# Altium schematic symbol library General Library.SchLib: 43 symbols (part 1 of 2)
Pins are listed as number, name and electrical type; pins without a type are passive.

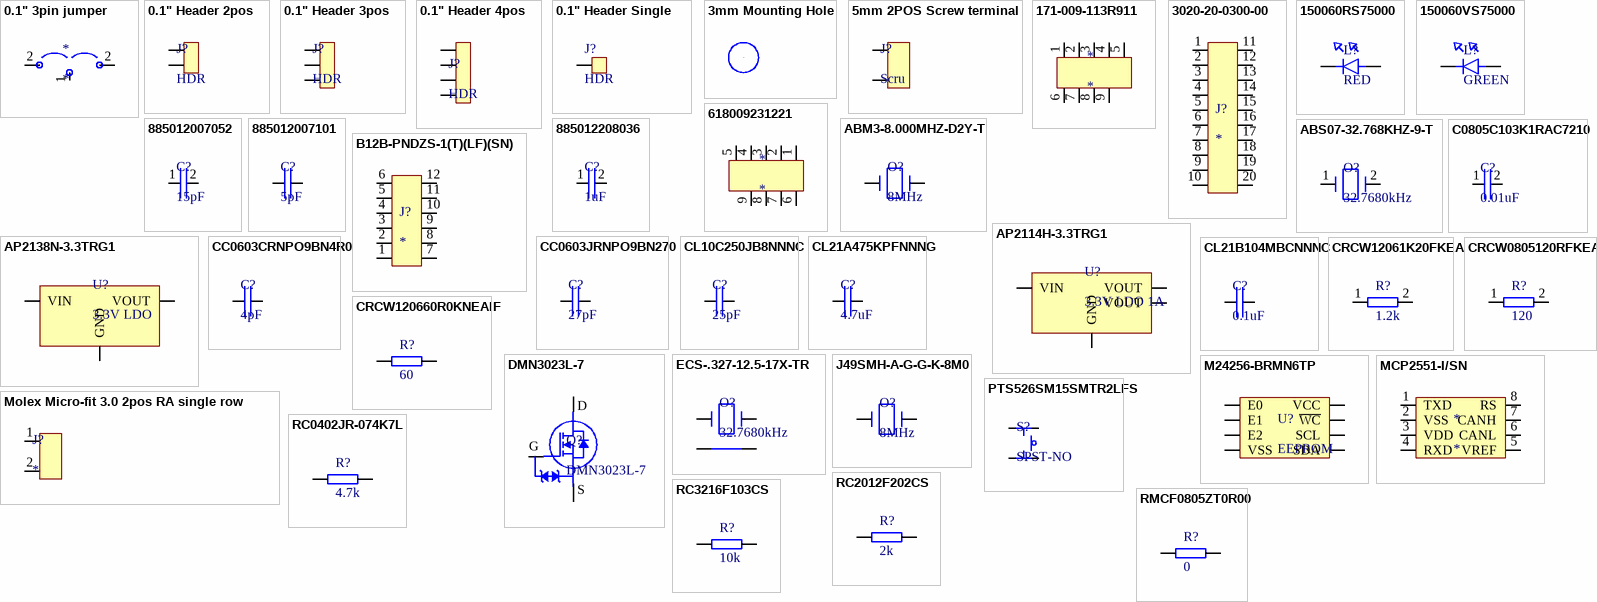
[diagram p0: symbols 0.1" 3pin jumper to RMCF0805ZT0R00]

## 0.1" 3pin jumper
designator *
pins: 1, 2, 2

## 0.1" Header 2pos
designator J?, comment HDR
footprint 0.1" Header 2pos
pins: 1, 2

## 0.1" Header 3pos
designator J?, comment HDR
footprint 0.1" Header 3pos
pins: 1, 2, 3

## 0.1" Header 4pos
designator J?, comment HDR
footprint 0.1" Header 4pos
pins: 1, 2, 3, 4

## 0.1" Header Single
designator J?, comment HDR
footprint 0.1" Header 1pos
pins: 1

## 3mm Mounting Hole
designator M?  (value not drawn)
footprint 3mm Mounting Hole
pins: 1

## 5mm 2POS Screw terminal
designator J?, comment Scru
footprint 5mm 2POS Screw terminal
pins: 1, 2

## 171-009-113R911
designator *
D Sub (male), PLUG, SOLDER, STRAIGHT, 9WAY; Product Range:NORCOMP - 171 Series; No. of Contacts:9; D Sub Shell Size:DE; Connector Body Material:Steel; Gender:Plug; Contact Termination Type:Solder; SVHC:No SVHC (16-Jun-2014); Contact ;RoHS Compliant: Yes
footprint DB9 (Male)
pins: 1, 2, 3, 4, 5, 6, 7, 8, 9

## 3020-20-0300-00
designator J?
CONN HEADER SMD 20POS 2.54MM
footprint 3020-20-0300-00
pins: 1, 2, 3, 4, 5, 6, 7, 8, 9, 10, 11, 12, 13, 14, 15, 16, 17, 18, 19, 20

## 150060RS75000
designator L?, comment RED
WURTH ELEKTRONIK - 150060RS75000 - LED, Red, 625 nm, 2 V, 30 mA, 250 mcd RoHS Compliant: Yes; Manufacturer: Wurth Electronics; Viewing Angle: 140°; Lens Style: Clear,Rectangular; Luminous Intensity: 250mcd; Forward Current: 30mA; Forward Voltage: 2V; Wavelength: 625nm; Test Current: 20mA; Supplier 1: Digi-Key; Supplier Part Number 1: 732-4978-1-ND; Manufacturer Part Number: 150060RS75000; RoHS: Yes; Category: LEDs; Stock 1: 19381; Mount: Surface Mount; Case/Package: 0603; Case Code (Imperial): 0603; Color: Red; Case Code (Metric): 1608; Min Operating Temperature: -40°C; Max Operating Temperature: 85°C; Package Quantity: 1; Packaging: Cut Tape; Dominant Wavelength: 625nm; Length: 1.6mm; Height: 0.7mm; Width: 0.8mm; REACH SVHC: Unknown; ComponentLink1URL: https://datasheet.ciiva.com/29563/150060rs75000-29563040.pdf?src-supplier=Digi-Key; ComponentLink1Description: https://datasheet.ciiva.com/29563/150060rs75000-29563040.pdf?src-supplier=Digi-Key; ComponentLink2URL: https://datasheet.ciiva.com/29279/759428-da-01-en-chipled-0603-w-kl-rot-150060rs75000-29279196.pdf?src-supplier=Conrad; ComponentLink2Description: https://datasheet.ciiva.com/29279/759428-da-01-en-chipled-0603-w-kl-rot-150060rs75000-29279196.pdf?src-supplier=Conrad
footprint 0603 LED
pins: 1, 2

## 150060VS75000
designator L?, comment GREEN
WURTH ELEKTRONIK - 150060VS75000 - LED, Grün, Oberflächenmontage, 603, 30 mA, 2 V, 570 nm; Manufacturer: Wurth Electronics; Luminous Intensity: 40mcd; Viewing Angle: 140°; Forward Voltage: 2V; Wavelength: 570nm; Lens Style: Clear,Rectangular; Forward Current: 30mA; Test Current: 20mA; Supplier 1: Digi-Key; Supplier Part Number 1: 732-4980-1-ND; Manufacturer Part Number: 150060VS75000; RoHS: Yes; Category: LEDs; Stock 1: 29022; Mount: Surface Mount; Case/Package: 0603; Number of Pins: 2; Case Code (Metric): 1608; Case Code (Imperial): 0603; Color: Green; Min Operating Temperature: -40°C; Max Operating Temperature: 85°C; Package Quantity: 1; Packaging: Tape and Reel; Dominant Wavelength: 570nm; Length: 1.6mm; Height: 0.7mm; Width: 0.8mm; REACH SVHC: Unknown; ComponentLink1URL: https://datasheet.ciiva.com/29562/150060vs75000-29562919.pdf?src-supplier=Digi-Key; ComponentLink1Description: https://datasheet.ciiva.com/29562/150060vs75000-29562919.pdf?src-supplier=Digi-Key
footprint 0603 LED
pins: 1, 2

## 618009231221
designator *
WURTH ELEKTRONIK - 618009231221 - WR-DSUB FEMALE ANGLED PCB CONNEC
pins: 1, 2, 3, 4, 5, 6, 7, 8, 9

## 885012007052
designator C?, comment 15pF
CAP CER 15PF 50V C0G/NP0 0805; Manufacturer: Wurth Electronics; Manufacturer Part Number: 885012007052; Tolerance: 5%; Supplier 1: Digi-Key; Supplier Part Number 1: 732-7847-1-ND; RoHS: Yes; Category: Ceramic Capacitors; Stock 1: 5633; Mount: Surface Mount; Case/Package: 0805; Case Code (Metric): 2012; Case Code (Imperial): 0805; Min Operating Temperature: -55°C; Max Operating Temperature: 125°C; Packaging: Cut Tape; Capacitance: 15pF; Voltage Rating: 50V; Length: 0.079inch; Width: 0.049inch; Thickness: 0.028inch; ComponentLink1URL: http://www.farnell.com/datasheets/2031702.pdf?src-supplier=Farnell; ComponentLink1Description: http://www.farnell.com/datasheets/2031702.pdf?src-supplier=Farnell; ComponentLink2URL: https://katalog.we-online.de/pbs/datasheet/885012007052.pdf?src-supplier=Digi-Key; ComponentLink2Description: https://katalog.we-online.de/pbs/datasheet/885012007052.pdf?src-supplier=Digi-Key; ComponentLink3URL: http://katalog.we-online.de/pbs/datasheet/885012007052.pdf?src-supplier=Digi-Key; ComponentLink3Description: http://katalog.we-online.de/pbs/datasheet/885012007052.pdf?src-supplier=Digi-Key
footprint 0805
pins: 1, 2

## 885012007101
designator C?, comment 5pF
CAP CER 5PF 100V C0G/NP0 0805; Manufacturer: Wurth Electronics; Manufacturer Part Number: 885012007101; Supplier 1: Digi-Key; Supplier Part Number 1: 732-12221-1-ND; RoHS: No; Stock 1: 1082; Mount: Surface Mount; Case/Package: 0805; Case Code (Imperial): 0805; Case Code (Metric): 2012; Min Operating Temperature: -55°C; Max Operating Temperature: 125°C; Packaging: Cut Tape; Capacitance: 5pF; Voltage Rating: 100V; ComponentLink1URL: https://katalog.we-online.de/pbs/datasheet/885012007101.pdf?src-supplier=Digi-Key; ComponentLink1Description: https://katalog.we-online.de/pbs/datasheet/885012007101.pdf?src-supplier=Digi-Key
footprint 0805
pins: 1, 2

## 885012208036
designator C?, comment 1uF
CAP CER 1UF 16V X7R 1206; Manufacturer: Wurth Electronics; Manufacturer Part Number: 885012208036; Tolerance: 10%; Supplier 1: Digi-Key; Supplier Part Number 1: 732-7692-1-ND; RoHS: Yes; Category: Ceramic Capacitors; Stock 1: 2993; Mount: Surface Mount; Case/Package: 1206; Case Code (Imperial): 1206; Case Code (Metric): 3216; Min Operating Temperature: -55°C; Max Operating Temperature: 125°C; Packaging: Tape and Reel; Capacitance: 1uF; Voltage Rating: 16V; Length: 0.126inch; Width: 0.063inch; Thickness: 0.051inch; ComponentLink1URL: http://katalog.we-online.de/pbs/datasheet/885012208036.pdf?src-supplier=Digi-Key; ComponentLink1Description: http://katalog.we-online.de/pbs/datasheet/885012208036.pdf?src-supplier=Digi-Key; ComponentLink2URL: https://katalog.we-online.de/pbs/datasheet/885012208036.pdf?src-supplier=Digi-Key; ComponentLink2Description: https://katalog.we-online.de/pbs/datasheet/885012208036.pdf?src-supplier=Digi-Key
footprint 1206
pins: 1, 2

## ABM3-8.000MHZ-D2Y-T
designator O?, comment 8MHz
ABRACON - ABM3-8.000MHZ-D2Y-T - CRYSTAL, 8MHZ, 18PF, SMD
footprint ABM3-8.000MHZ-D2Y-T (8MHz ±20ppm Crystal 18pF 140 Ohms 2-SMD, No Lead)
pins: 1, 2

## ABS07-32.768KHZ-9-T
designator O?, comment 32.7680kHz
CRYSTAL 32.7680KHZ 9PF SMD
footprint ABS07-32.768KHZ-9-T (32.768kHz ±20ppm Crystal 9pF 70 kOhms 2-SMD, No Lead)
pins: 1, 2

## AP2114H-3.3TRG1
designator U?, comment 3.3V LDO 1A
AP2114 Series 3.3 V Fixed Output 1 A LDO Regulator with Enable - SOT-223; Manufacturer: Diodes; Manufacturer Part Number: AP2114H-3.3TRG1; Number of Regulators: 1; Polarity: Positive; Quiescent Current: 65uA; Accuracy: 1.5%; Min Input Voltage: 2.5V; Max Input Voltage: 6V; Dropout Voltage: 450mV; Power Supply Rejection Ratio (PSRR): 65dB; Supplier 1: Digi-Key; Supplier Part Number 1: AP2114H-3.3TRG1DICT-ND; RoHS: Yes; Category: Voltage Regulators - Linear; Stock 1: 24450; Mount: Surface Mount; Case/Package: SOT-223; Number of Pins: 3; Weight: 0.000282oz; Min Operating Temperature: -40°C; Max Operating Temperature: 85°C; Max Output Current: 1A; Output Current: 1A; Packaging: Tape and Reel; Number of Outputs: 1; Output Voltage: 3.3V; Package Quantity: 4000; Output Type: Fixed; Length: 6.7mm; Height: 1.7mm; Width: 3.7mm; Lead Free: Lead Free; ComponentLink1URL: https://datasheet.ciiva.com/29569/ap2114-29569881.pdf?src-supplier=Digi-Key; ComponentLink1Description: https://datasheet.ciiva.com/29569/ap2114-29569881.pdf?src-supplier=Digi-Key; ComponentLink2URL: https://datasheet.ciiva.com/29569/ap2114-29569882.pdf?src-supplier=Digi-Key; ComponentLink2Description: https://datasheet.ciiva.com/29569/ap2114-29569882.pdf?src-supplier=Digi-Key; ComponentLink3URL: https://datasheet.ciiva.com/29569/ap2114-29569883.pdf?src-supplier=Digi-Key; ComponentLink3Description: https://datasheet.ciiva.com/29569/ap2114-29569883.pdf?src-supplier=Digi-Key
footprint SOT-223
pins: 1 GND, 2 VOUT, 3 VIN, 4 VOUT

## AP2138N-3.3TRG1
designator U?, comment 3.3V LDO
IC REG LINEAR 3.3V 250MA SOT23-3; Manufacturer: Diodes; Manufacturer Part Number: AP2138N-3.3TRG1; Number of Regulators: 1; Quiescent Current: 1uA; Accuracy: 2%; Polarity: Positive; Output Type: Fixed; Min Input Voltage: 2.5V; Max Input Voltage: 6.6V; Dropout Voltage: 400mV; Supplier 1: Digi-Key; Supplier Part Number 1: AP2138N-3.3TRG1DICT-ND; RoHS: Yes; Category: Voltage Regulators - Linear; Stock 1: 148471; Mount: Surface Mount; Case/Package: SOT-23-3; Number of Pins: 3; Weight: 0.000282oz; Min Operating Temperature: -40°C; Max Operating Temperature: 85°C; Output Current: 250mA; Max Output Current: 250mA; Packaging: Tape and Reel; Number of Outputs: 1; Output Voltage: 3.3V; Package Quantity: 3000; Length: 3.02mm; Height: 1.3mm; Width: 1.7mm; Lead Free: Lead Free; ComponentLink1URL: https://datasheet.ciiva.com/29568/ap2138-9-29568816.pdf?src-supplier=Digi-Key; ComponentLink1Description: https://datasheet.ciiva.com/29568/ap2138-9-29568816.pdf?src-supplier=Digi-Key; ComponentLink2URL: https://datasheet.ciiva.com/30016/ap2138-9-30016777.pdf?src-supplier=Avnet; ComponentLink2Description: https://datasheet.ciiva.com/30016/ap2138-9-30016777.pdf?src-supplier=Avnet; ComponentLink3URL: https://datasheet.ciiva.com/29569/ap2138-9-29569023.pdf?src-supplier=Digi-Key; ComponentLink3Description: https://datasheet.ciiva.com/29569/ap2138-9-29569023.pdf?src-supplier=Digi-Key; ComponentLink4URL: https://datasheet.ciiva.com/29569/ap2138-9-29569022.pdf?src-supplier=Digi-Key; ComponentLink4Description: https://datasheet.ciiva.com/29569/ap2138-9-29569022.pdf?src-supplier=Digi-Key
footprint SOT-23-3
pins: 1 GND, 2 VOUT, 3 VIN

## B12B-PNDZS-1(T)(LF)(SN)
designator J?
CONN HEADER VERT 12POS 2MM; Manufacturer: JST; Manufacturer Part Number: B12B-PNDZS-1(T)(LF)(SN); Number of Positions: 12; Connector Type: Male Pin; Pitch: 0.079inch; Row Spacing: 0.197inch; Supplier 1: Digi-Key; Supplier Part Number 1: 455-2324-ND; RoHS: Yes; Category: Connectors; Stock 1: 2917; Mount: Through Hole; Color: Beige; Contact Plating: Tin; Termination: Solder; Number of Rows: 2; Fastening Type: Ramp; Packaging: Tray; Lead Free: Lead Free; ComponentLink1URL: https://datasheet.ciiva.com/726/epnd-726783.pdf?src-supplier=Digi-Key; ComponentLink1Description: https://datasheet.ciiva.com/726/epnd-726783.pdf?src-supplier=Digi-Key
footprint B12B-PNDZS-1(T)(LF)(SN)
pins: 1, 2, 3, 4, 5, 6, 7, 8, 9, 10, 11, 12

## C0805C103K1RAC7210
designator C?, comment 0.01uF
Cap Ceramic 0.01uF 100V X7R 10% SMD 0805 125C T/R; Manufacturer: KEMET; Manufacturer Part Number: C0805C103K1RAC7210; Capacitance: 10nF; Supplier 1: Digi-Key; Supplier Part Number 1: 399-17617-1-ND; RoHS: Yes; Category: Ceramic Capacitors; Stock 1: 43378; Mount: Surface Mount; Case/Package: 0805; Case Code (Imperial): 0805; Case Code (Metric): 2012; Dielectric Material: Ceramic; Min Operating Temperature: -55°C; Max Operating Temperature: 125°C; Dielectric: X7R; Tolerance: 10%; Termination: SMD/SMT; Packaging: Tape and Reel; Package Quantity: 10000; Voltage Rating: 100V; Voltage Rating (DC): 100V; Length: 2mm; Height: 0.78mm; Depth: 1.25mm; Radiation Hardening: No; ComponentLink1URL: http://www.mouser.com/ds/2/212/KEM_C1002_X7R_SMD-1102033.pdf?src-supplier=Mouser; ComponentLink1Description: http://www.mouser.com/ds/2/212/KEM_C1002_X7R_SMD-1102033.pdf?src-supplier=Mouser; ComponentLink2URL: https://www.verical.com/server-webapp/html/getDatasheet?partID=131027&src-supplier=Verical; ComponentLink2Description: https://www.verical.com/server-webapp/html/getDatasheet?partID=131027&src-supplier=Verical; ComponentLink3URL: http://components.arrow.com/part/dataview/0323_00324583?src-supplier=Arrow+Europe; ComponentLink3Description: http://components.arrow.com/part/dataview/0323_00324583?src-supplier=Arrow+Europe; ComponentLink4URL: http://www.farnell.com/datasheets/2747800.pdf?src-supplier=Farnell; ComponentLink4Description: http://www.farnell.com/datasheets/2747800.pdf?src-supplier=Farnell; ComponentLink5URL: http://components.arrow.com/part/dataview/2091052S6675795N7429?src-supplier=Arrow; ComponentLink5Description: http://components.arrow.com/part/dataview/2091052S6675795N7429?src-supplier=Arrow; ComponentLink6URL: http://www.farnell.com/datasheets/2747800.pdf?src-supplier=Newark; ComponentLink6Description: http://www.farnell.com/datasheets/2747800.pdf?src-supplier=Newark; ComponentLink7URL: http://www.kemet.com/kemet/web/homepage/kechome.nsf/weben/C4DA2DA1D1C9D3C3CA2570A50016092D/$file/KEM_C1002_X7R_SMD.pdf?src-supplier=Avnet+Europe; ComponentLink7Description: http://www.kemet.com/kemet/web/homepage/kechome.nsf/weben/C4DA2DA1D1C9D3C3CA2570A50016092D/$file/KEM_C1002_X7R_SMD.pdf?src-supplier=Avnet+Europe; ComponentLink8URL: http://www.kemet.com/kemet/web/homepage/kechome.nsf/weben/C4DA2DA1D1C9D3C3CA2570A50016092D/$file/KEM_C1002_X7R_SMD.pdf?src-supplier=Avnet; ComponentLink8Description: http://www.kemet.com/kemet/web/homepage/kechome.nsf/weben/C4DA2DA1D1C9D3C3CA2570A50016092D/$file/KEM_C1002_X7R_SMD.pdf?src-supplier=Avnet; ComponentLink9URL: https://api.kemet.com/component-edge/download/datasheet/C0805C103K1RAC7210.pdf?src-supplier=Digi-Key; ComponentLink9Description: https://api.kemet.com/component-edge/download/datasheet/C0805C103K1RAC7210.pdf?src-supplier=Digi-Key
footprint 0805
pins: 1, 2

## CC0603CRNPO9BN4R0
designator C?, comment 4pF
CAP CER 4PF 50V C0G/NPO 0603; Manufacturer: Yageo; Manufacturer Part Number: CC0603CRNPO9BN4R0; Dielectric: C0G; Insulation Resistance: 10GR; Supplier 1: Digi-Key; Supplier Part Number 1: 311-1053-1-ND; RoHS: Yes; Category: Ceramic Capacitors; Stock 1: 1954; Mount: Surface Mount; Case/Package: 0603; Number of Pins: 2; Weight: 7.1E-05oz; Case Code (Imperial): 0603; Case Code (Metric): 1608; Min Operating Temperature: -55°C; Max Operating Temperature: 125°C; Termination: SMD/SMT; Composition: Ceramic; Capacitance: 4pF; Packaging: Tape and Reel; Voltage Rating: 50V; Voltage Rating (DC): 50V; Package Quantity: 1; Length: 1.6mm; Thickness: 0.035inch; Depth: 0.8mm; Width: 0.8mm; Lead Free: Lead Free; ComponentLink1URL: https://datasheet.ciiva.com/145/mlccorderingcode-145161.pdf?src-supplier=Digi-Key; ComponentLink1Description: https://datasheet.ciiva.com/145/mlccorderingcode-145161.pdf?src-supplier=Digi-Key; ComponentLink2URL: https://datasheet.ciiva.com/145/mlccorderingcode-145162.pdf?src-supplier=Digi-Key; ComponentLink2Description: https://datasheet.ciiva.com/145/mlccorderingcode-145162.pdf?src-supplier=Digi-Key; ComponentLink3URL: https://datasheet.ciiva.com/145/mlccorderingcode-145163.pdf?src-supplier=Digi-Key; ComponentLink3Description: https://datasheet.ciiva.com/145/mlccorderingcode-145163.pdf?src-supplier=Digi-Key
footprint 0603
pins: 1, 2

## CC0603JRNPO9BN270
designator C?, comment 27pF
Cap Ceramic 27pF 50VDC C0G 5% SMD 0603 Paper T/R; Manufacturer: Yageo; Manufacturer Part Number: CC0603JRNPO9BN270; Tolerance: 10%; Voltage: 50V; Insulation Resistance: 100GR; Temperature Coefficient: 0ppm/°C; Supplier 1: Digi-Key; Supplier Part Number 1: 311-1063-1-ND; RoHS: Yes; Category: Ceramic Capacitors; Stock 1: 148250; Mount: Surface Mount; Case/Package: 0603; Number of Pins: 2; Case Code (Metric): 1608; Case Code (Imperial): 0603; Dielectric Material: Ceramic; Min Operating Temperature: -55°C; Max Operating Temperature: 125°C; Dielectric: C0G; Capacitance: 27pF; Package Quantity: 1; Voltage Rating: 50V; Packaging: Tape and Reel; Voltage Rating (DC): 50V; Termination: SMD/SMT; Composition: Ceramic; Length: 1.6mm; Height: 0.8mm; Width: 0.031inch; Thickness: 0.035inch; Depth: 0.8mm; Radiation Hardening: No; REACH SVHC: Unknown; Lead Free: Lead Free; ComponentLink1URL: https://datasheet.ciiva.com/26862/getdatasheetpartid-403529-26862764.pdf?src-supplier=Verical; ComponentLink1Description: https://datasheet.ciiva.com/26862/getdatasheetpartid-403529-26862764.pdf?src-supplier=Verical; ComponentLink2URL: https://datasheet.ciiva.com/144/mlccorderingcode-144640.pdf?src-supplier=Digi-Key; ComponentLink2Description: https://datasheet.ciiva.com/144/mlccorderingcode-144640.pdf?src-supplier=Digi-Key; ComponentLink3URL: https://datasheet.ciiva.com/144/mlccorderingcode-144641.pdf?src-supplier=Digi-Key; ComponentLink3Description: https://datasheet.ciiva.com/144/mlccorderingcode-144641.pdf?src-supplier=Digi-Key; ComponentLink4URL: https://datasheet.ciiva.com/144/mlccorderingcode-144642.pdf?src-supplier=Digi-Key; ComponentLink4Description: https://datasheet.ciiva.com/144/mlccorderingcode-144642.pdf?src-supplier=Digi-Key; ComponentLink5URL: https://datasheet.ciiva.com/11464/upy-gp-np0-16v-to-50v-8-11464729.pdf?src-supplier=Avnet; ComponentLink5Description: https://datasheet.ciiva.com/11464/upy-gp-np0-16v-to-50v-8-11464729.pdf?src-supplier=Avnet; ComponentLink6URL: https://datasheet.ciiva.com/46430/1835847-46430154.pdf?src-supplier=Element14; ComponentLink6Description: https://datasheet.ciiva.com/46430/1835847-46430154.pdf?src-supplier=Element14; ComponentLink7URL: https://datasheet.ciiva.com/8033/1734582-8033725.pdf?src-supplier=Element14; ComponentLink7Description: https://datasheet.ciiva.com/8033/1734582-8033725.pdf?src-supplier=Element14; ComponentLink8URL: https://datasheet.ciiva.com/8033/1443161-8033757.pdf?src-supplier=Element14; ComponentLink8Description: https://datasheet.ciiva.com/8033/1443161-8033757.pdf?src-supplier=Element14; ComponentLink9URL: https://datasheet.ciiva.com/8033/1734582-8033726.pdf?src-supplier=Element14; ComponentLink9Description: https://datasheet.ciiva.com/8033/1734582-8033726.pdf?src-supplier=Element14; ComponentLink10URL: https://datasheet.ciiva.com/16625/upy-gp-np0-16v-to-50v-8-16625519.pdf?src-supplier=Avnet+Europe; ComponentLink10Description: https://datasheet.ciiva.com/16625/upy-gp-np0-16v-to-50v-8-16625519.pdf?src-supplier=Avnet+Europe
footprint 0603
pins: 1, 2

## CL10C250JB8NNNC
designator C?, comment 25pF
Cap Ceramic 25pF 50V C0G 5% SMD 0603 125C Cardboard T/R; Manufacturer: Samsung; Manufacturer Part Number: CL10C250JB8NNNC; Supplier 1: Digi-Key; Supplier Part Number 1: 1276-2244-1-ND; RoHS: Yes; Category: Ceramic Capacitors; Stock 1: 184474; Mount: Surface Mount; Case/Package: 0603; Case Code (Imperial): 0603; Case Code (Metric): 1608; Min Operating Temperature: -55°C; Max Operating Temperature: 125°C; Capacitance: 25pF; Tolerance: 5%; Dielectric: C0G; Package Quantity: 1; Packaging: Tape and Reel; Voltage Rating: 50V; Voltage Rating (DC): 50V; Length: 1.6mm; Height: 0.8mm; Width: 0.031inch; Thickness: 0.035inch; Depth: 0.8mm; Radiation Hardening: No; ComponentLink1URL: https://datasheet.ciiva.com/25769/cl10c250jb8nnnc-25769377.pdf?src-supplier=Digi-Key; ComponentLink1Description: https://datasheet.ciiva.com/25769/cl10c250jb8nnnc-25769377.pdf?src-supplier=Digi-Key
footprint 0603
pins: 1, 2

## CL21A475KPFNNNG
designator C?, comment 4.7uF
Cap Ceramic 4.7uF 10V X5R 10% Pad SMD 0805 85°C T/R; Manufacturer: Samsung; Manufacturer Part Number: CL21A475KPFNNNG; Supplier 1: Digi-Key; Supplier Part Number 1: 1276-6464-1-ND; RoHS: Yes; Category: Ceramic Capacitors; Stock 1: 115870; Mount: Surface Mount; Case/Package: 0805; Case Code (Metric): 2012; Case Code (Imperial): 0805; Material: Ceramic; Min Operating Temperature: -55°C; Max Operating Temperature: 85°C; Tolerance: 10%; Capacitance: 4.7uF; Voltage Rating: 10V; Packaging: Tape and Reel; Voltage: 10V; Package Quantity: 3000; Dielectric: X5R; Length: 2mm; Height: 1.25mm; Thickness: 0.053inch; Depth: 1.25mm; Width: 0.049inch; Radiation Hardening: No; Lead Free: Lead Free; ComponentLink1URL: https://datasheet.ciiva.com/26838/getdatasheetpartid-725889-26838629.pdf?src-supplier=Verical; ComponentLink1Description: https://datasheet.ciiva.com/26838/getdatasheetpartid-725889-26838629.pdf?src-supplier=Verical; ComponentLink2URL: https://datasheet.ciiva.com/25731/cl21a475kpfnnng-25731818.pdf?src-supplier=Digi-Key; ComponentLink2Description: https://datasheet.ciiva.com/25731/cl21a475kpfnnng-25731818.pdf?src-supplier=Digi-Key; ComponentLink3URL: https://datasheet.ciiva.com/29199/455289-da-01-en-vs-kondensator-0805-29199364.pdf?src-supplier=Conrad; ComponentLink3Description: https://datasheet.ciiva.com/29199/455289-da-01-en-vs-kondensator-0805-29199364.pdf?src-supplier=Conrad
footprint 0805
pins: 1, 2

## CL21B104MBCNNNC
designator C?, comment 0.1uF
Cap Ceramic 0.1uF 50V X7R 20% SMD 0805 125C Paper T/R; Manufacturer: Samsung; Manufacturer Part Number: CL21B104MBCNNNC; Capacitance: 100nF; Supplier 1: Newark; Supplier Part Number 1: 82AC9432; RoHS: Yes; Category: Ceramic Capacitors; Stock 1: 64000; Pricing 1: 4000=0.01100, 8000=0.01000 (CAD); Mount: Surface Mount; Case/Package: 0805; Case Code (Imperial): 0805; Case Code (Metric): 2012; Min Operating Temperature: -55°C; Max Operating Temperature: 125°C; Tolerance: 20%; Dielectric: X7R; Voltage: 50V; Package Quantity: 1; Packaging: Tape and Reel; Voltage Rating: 50V; Voltage Rating (DC): 50V; Length: 2mm; Height: 0.85mm; Depth: 1.25mm; Width: 0.049inch; Thickness: 0.037inch; Radiation Hardening: No; Lead Free: Lead Free; ComponentLink1URL: https://datasheet.ciiva.com/16428/cl21b104mbcnnnc-16428869.pdf?src-supplier=Future+Electronics; ComponentLink1Description: https://datasheet.ciiva.com/16428/cl21b104mbcnnnc-16428869.pdf?src-supplier=Future+Electronics; ComponentLink2URL: https://datasheet.ciiva.com/26838/getdatasheetpartid-746552-26838664.pdf?src-supplier=Verical; ComponentLink2Description: https://datasheet.ciiva.com/26838/getdatasheetpartid-746552-26838664.pdf?src-supplier=Verical; ComponentLink3URL: https://datasheet.ciiva.com/25780/cl21b104mbcnnnc-25780224.pdf?src-supplier=Digi-Key; ComponentLink3Description: https://datasheet.ciiva.com/25780/cl21b104mbcnnnc-25780224.pdf?src-supplier=Digi-Key
footprint 0805
pins: 1, 2

## CRCW12061K20FKEA
designator R?, comment 1.2k
VISHAY - CRCW12061K20FKEA - SMD Chip Resistor, 1206 [3216 Metric], 1.2 kohm, CRCW e3 Series, 200 V, Thick Film, 250 mW; Resistance: 1.2kR; Tolerance: 1%; Max Power Dissipation: 250mW; Temperature Coefficient: 100ppm/°C; Voltage Rating: 200V; Supplier 1: Digi-Key; Supplier Part Number 1: 541-1.20KFCT-ND; Manufacturer: Vishay; Manufacturer Part Number: CRCW12061K20FKEA; RoHS: Yes; Category: Chip SMD Resistors; Stock 1: 13043; Case/Package: 1206; Weight: 0.000353oz; Case Code (Metric): 3216; Case Code (Imperial): 1206; Contact Plating: Tin; Min Operating Temperature: -55°C; Max Operating Temperature: 155°C; Packaging: Tape and Reel; Composition: Thick Film; Number of Terminations: 2; Features: Automotive AEC-Q200; Power Rating: 250mW; Package Quantity: 10; Voltage Rating (DC): 200V; Working Voltage: 200V; Military Standard: Not; Termination: SMD/SMT; Length: 3.2mm; Height: 0.55mm; Width: 0.063inch; Depth: 1.6mm; Radiation Hardening: No; REACH SVHC: Unknown; Lead Free: Lead Free; ComponentLink1URL: https://datasheet.ciiva.com/11809/0900766b80d98b5e-11809061.pdf?src-supplier=RSComponents; ComponentLink1Description: https://datasheet.ciiva.com/11809/0900766b80d98b5e-11809061.pdf?src-supplier=RSComponents; ComponentLink2URL: https://datasheet.ciiva.com/2469/dcrcwe3-2469104.pdf?src-supplier=Digi-Key; ComponentLink2Description: https://datasheet.ciiva.com/2469/dcrcwe3-2469104.pdf?src-supplier=Digi-Key; ComponentLink3URL: https://datasheet.ciiva.com/22674/1847332-22674725.pdf?src-supplier=Element14; ComponentLink3Description: https://datasheet.ciiva.com/22674/1847332-22674725.pdf?src-supplier=Element14; ComponentLink4URL: https://datasheet.ciiva.com/16202/dcrcwe3-16202471.pdf?src-supplier=Future+Electronics; ComponentLink4Description: https://datasheet.ciiva.com/16202/dcrcwe3-16202471.pdf?src-supplier=Future+Electronics; ComponentLink5URL: https://datasheet.ciiva.com/22704/1533075-22704455.pdf?src-supplier=Element14; ComponentLink5Description: https://datasheet.ciiva.com/22704/1533075-22704455.pdf?src-supplier=Element14; ComponentLink6URL: https://datasheet.ciiva.com/7777/1697337-7777448.pdf?src-supplier=Element14; ComponentLink6Description: https://datasheet.ciiva.com/7777/1697337-7777448.pdf?src-supplier=Element14; ComponentLink7URL: https://datasheet.ciiva.com/16761/70201119-16761705.pdf?src-supplier=Allied+Electronics; ComponentLink7Description: https://datasheet.ciiva.com/16761/70201119-16761705.pdf?src-supplier=Allied+Electronics; ComponentLink8URL: https://datasheet.ciiva.com/16852/dcrcwe3-16852637.pdf?src-supplier=Avnet+Europe; ComponentLink8Description: https://datasheet.ciiva.com/16852/dcrcwe3-16852637.pdf?src-supplier=Avnet+Europe; ComponentLink9URL: https://datasheet.ciiva.com/22871/70201119-22871181.pdf?src-supplier=Allied+Electronics; ComponentLink9Description: https://datasheet.ciiva.com/22871/70201119-22871181.pdf?src-supplier=Allied+Electronics; ComponentLink10URL: https://datasheet.ciiva.com/2469/dcrcwe3-2469102.pdf?src-supplier=Digi-Key; ComponentLink10Description: https://datasheet.ciiva.com/2469/dcrcwe3-2469102.pdf?src-supplier=Digi-Key; ComponentLink11URL: https://datasheet.ciiva.com/2469/dcrcwe3-2469103.pdf?src-supplier=Digi-Key; ComponentLink11Description: https://datasheet.ciiva.com/2469/dcrcwe3-2469103.pdf?src-supplier=Digi-Key; ComponentLink12URL: https://datasheet.ciiva.com/7777/1533075-7777583.pdf?src-supplier=Element14; ComponentLink12Description: https://datasheet.ciiva.com/7777/1533075-7777583.pdf?src-supplier=Element14
footprint 1206
pins: 1, 2

## CRCW120660R0KNEAIF
designator R?, comment 60
D25/CRCW1206-IF 200 60R 10% ET1 e3; Manufacturer: Vishay; Manufacturer Part Number: CRCW120660R0KNEAIF; Max Power Dissipation: 250mW; Temperature Coefficient: 200ppm/°C; Voltage Rating: 200V; Supplier 1: Mouser; Supplier Part Number 1: 71-CRCW120660R0KNAIF; RoHS: Yes; Category: Chip SMD Resistors; Stock 1: 1886; Case/Package: 1206; Weight: 0.000353oz; Case Code (Imperial): 1206; Case Code (Metric): 3216; Min Operating Temperature: -55°C; Max Operating Temperature: 155°C; Composition: Thick Film; Features: Automotive AEC-Q200; Termination: SMD/SMT; Number of Terminations: 2; Power Rating: 250mW; Packaging: Tape and Reel; Package Quantity: 5000; Resistance: 60R; Tolerance: 10%; Length: 0.126inch; Height: 0.024inch; Width: 1.6mm; ComponentLink1URL: http://www.vishay.com/doc?20024?src-supplier=Mouser; ComponentLink1Description: http://www.vishay.com/doc?20024?src-supplier=Mouser; ComponentLink2URL: http://www.vishay.com/docs/20024/dcrcwife3.pdf?src-supplier=Digi-Key; ComponentLink2Description: http://www.vishay.com/docs/20024/dcrcwife3.pdf?src-supplier=Digi-Key
footprint 1206
pins: 1, 2

## CRCW0805120RFKEAC
designator R?, comment 120
RES 120 OHM 1% 1/8W 0805; Manufacturer: Vishay; Manufacturer Part Number: CRCW0805120RFKEAC; Resistance: 120R; Max Power Dissipation: 125mW; Temperature Coefficient: 100ppm/°C; Supplier 1: Digi-Key; Supplier Part Number 1: 541-CRCW0805120RFKEACCT-ND; RoHS: No; Category: Chip SMD Resistors; Stock 1: 40000; Case/Package: 0805; Min Operating Temperature: -55°C; Max Operating Temperature: 155°C; Composition: Thick Film; Packaging: Tape and Reel; Tolerance: 1%; Number of Terminations: 2; ComponentLink1URL: http://www.vishay.com/docs/28773/crcwce3.pdf?src-supplier=Digi-Key; ComponentLink1Description: http://www.vishay.com/docs/28773/crcwce3.pdf?src-supplier=Digi-Key
footprint 0805
pins: 1, 2

## DMN3023L-7
designator Q?
N-Channel 30V 6.2A (Ta) 900mW (Ta) Surface Mount SOT-23; Supplier 1: Digikey; Supplier 1 Part Number: DMN3023L-7DICT-ND; ComponentLink1Description: Digikey; ComponentLink1URL: https://www.digikey.ca/product-detail/en/diodes-incorporated/DMN3023L-7/DMN3023L-7DICT-ND/5453155
footprint SOT-23-3
pins: 1 G, 2 S, 3 D

## ECS-.327-12.5-17X-TR
designator O?, comment 32.7680kHz
ECS-.327-12.5-17X-TR - 32.768kHz ±20ppm Crystal 12.5pF 50 kOhms 4-SOJ, 5.50mm pitch
footprint 4-SOJ
pins: 1, 2, 3, 4

## J49SMH-A-G-G-K-8M0
designator O?, comment 8MHz
J49SMH-A-G-G-K-8M0 - 8MHz ±30ppm Crystal 12pF 50 Ohms HC-49/US
footprint HC-49/US
pins: 1, 2

## M24256-BRMN6TP
designator U?, comment EEPROM
EEPROM Serial-I2C 256K-bit 32K x 8 2.5V/3.3V/5V 8-Pin SO N T/R
footprint 8-SOIC
pins: 1 E0, 2 E1, 3 E2, 4 VSS, 5 SDA, 6 SCL, 7 ~{WC}, 8 VCC

## MCP2551-I/SN
designator *
CAN TRANSCEIVER; Manufacturer: Microchip; Manufacturer Part Number: MCP2551-I/SN; Body Material: Steel; Number of Contacts: 9; Current Rating: 5A; Gender: Male; Connector Type: D-Sub,Plug,Signal; Voltage Rating: 125V; Pitch: 2.84mm; Max Supply Voltage: 5.5V; Min Supply Voltage: 2.7V; Interface: SPI; Max Frequency: 400kHz; Access Time: 900ns; Density: 256Kb; Operating Supply Voltage: 5V; Frequency: 1MHz; Nominal Supply Current: 2.5mA; Memory Type: EEPROM; Contact Resistance: 10mR; Voltage Rating (AC): 250V; Number of Circuits: 2; Insulation Resistance: 1GR; Glow Wire Compliant: Compliant; Row Spacing: 0.1inch; Frequency Stability: 30ppm; Load Capacitance: 18pF; ESR (Equivalent Series Resistance): 140R; Frequency Tolerance: 20ppm; Series Resistance: 500R; Supplier 1: Digi-Key; Supplier Part Number 1: MCP2551-I/SN-ND; RoHS: Yes; Category: Interface ICs; Stock 1: 3363; ComponentLink1URL: https://datasheet.ciiva.com/8084/jp011797-8084592.pdf?src-supplier=Avnet; ComponentLink1Description: https://datasheet.ciiva.com/8084/jp011797-8084592.pdf?src-supplier=Avnet; ComponentLink2URL: https://datasheet.ciiva.com/27056/2040583-27056423.pdf?src-supplier=Jameco; ComponentLink2Description: https://datasheet.ciiva.com/27056/2040583-27056423.pdf?src-supplier=Jameco; ComponentLink3URL: https://datasheet.ciiva.com/1495/21667f-1495089.pdf?src-supplier=Element14; ComponentLink3Description: https://datasheet.ciiva.com/1495/21667f-1495089.pdf?src-supplier=Element14; ComponentLink4URL: https://datasheet.ciiva.com/1700/21667f-1700023.pdf?src-supplier=Digi-Key; ComponentLink4Description: https://datasheet.ciiva.com/1700/21667f-1700023.pdf?src-supplier=Digi-Key; ComponentLink5URL: https://datasheet.ciiva.com/14152/eb644223-644224-e-14152540.pdf?src-supplier=Distrelec; ComponentLink5Description: https://datasheet.ciiva.com/14152/eb644223-644224-e-14152540.pdf?src-supplier=Distrelec; ComponentLink6URL: https://datasheet.ciiva.com/17649/jp011797-17649039.pdf?src-supplier=Avnet+Europe; ComponentLink6Description: https://datasheet.ciiva.com/17649/jp011797-17649039.pdf?src-supplier=Avnet+Europe; Supplier 2: Digi-Key; Supplier Part Number 2: 9209ME-ND; Stock 2: 10320; Mount: Through Hole; Contact Plating: Gold; Contact Material: Brass; Housing Material: Nylon; Color: Black; Material: Metal; Housing Color: Black; Min Operating Temperature: -50°C; Max Operating Temperature: 100°C; Package Quantity: 80; Packaging: Tray; Termination: Through Hole; Number of Rows: 2; Number of Positions: 9; Length: 30.8mm; Height: 9.93mm; Width: 12.6mm; REACH SVHC: No SVHC; Lead Free: Lead Free; Flammability Rating: UL94 V-0; ComponentLink7URL: https://datasheet.ciiva.com/655/171-yyy-113ryy1-655574.pdf?src-supplier=Digi-Key; ComponentLink7Description: https://datasheet.ciiva.com/655/171-yyy-113ryy1-655574.pdf?src-supplier=Digi-Key; ComponentLink8URL: https://datasheet.ciiva.com/5118/171-yyy-113ryy1-5118968.pdf?src-supplier=Mouser; ComponentLink8Description: https://datasheet.ciiva.com/5118/171-yyy-113ryy1-5118968.pdf?src-supplier=Mouser; ComponentLink9URL: https://datasheet.ciiva.com/16376/171-yyy-113ryy1-16376504.pdf?src-supplier=Future+Electronics; ComponentLink9Description: https://datasheet.ciiva.com/16376/171-yyy-113ryy1-16376504.pdf?src-supplier=Future+Electronics; Supplier 3: Digi-Key; Supplier Part Number 3: 732-618009231121-ND; Stock 3: 281; Orientation: Right Angle; Depth: 18.5mm; ComponentLink10URL: https://datasheet.ciiva.com/12669/6180xx231121-12669218.pdf?src-supplier=Mouser; ComponentLink10Description: https://datasheet.ciiva.com/12669/6180xx231121-12669218.pdf?src-supplier=Mouser; ComponentLink11URL: https://datasheet.ciiva.com/1426/1442189-1426428.pdf?src-supplier=Element14; ComponentLink11Description: https://datasheet.ciiva.com/1426/1442189-1426428.pdf?src-supplier=Element14; Supplier 4: Digi-Key; Supplier Part Number 4: 732-618009231221-ND; Stock 4: 49; ComponentLink12URL: https://datasheet.ciiva.com/12669/6180xx231221-12669204.pdf?src-supplier=Mouser; ComponentLink12Description: https://datasheet.ciiva.com/12669/6180xx231221-12669204.pdf?src-supplier=Mouser; ComponentLink13URL: https://datasheet.ciiva.com/25605/0900766b81191766-25605476.pdf?src-supplier=RSComponents; ComponentLink13Description: https://datasheet.ciiva.com/25605/0900766b81191766-25605476.pdf?src-supplier=RSComponents; ComponentLink14URL: https://datasheet.ciiva.com/1426/1442191-1426429.pdf?src-supplier=Element14; ComponentLink14Description: https://datasheet.ciiva.com/1426/1442191-1426429.pdf?src-supplier=Element14; Supplier 5: Digi-Key; Supplier Part Number 5: LTC6820IMS#PBF-ND; Stock 5: 4671; Case/Package: MSOP; Number of Pins: 16; ComponentLink15URL: https://datasheet.ciiva.com/22649/1730562-22649446.pdf?src-supplier=Element14; ComponentLink15Description: https://datasheet.ciiva.com/22649/1730562-22649446.pdf?src-supplier=Element14; ComponentLink16URL: https://datasheet.ciiva.com/22767/1730562-22767677.pdf?src-supplier=Farnell; ComponentLink16Description: https://datasheet.ciiva.com/22767/1730562-22767677.pdf?src-supplier=Farnell; Supplier 6: Digi-Key; Supplier Part Number 6: 497-6348-1-ND; Stock 6: 4627; Memory Size: 256Kb; Radiation Hardening: No; ComponentLink17URL: https://datasheet.ciiva.com/15123/getdatasheetpartid-309492-15123357.pdf?src-supplier=Verical; ComponentLink17Description: https://datasheet.ciiva.com/15123/getdatasheetpartid-309492-15123357.pdf?src-supplier=Verical; ComponentLink18URL: https://datasheet.ciiva.com/41455/001185584-da-01-en-ic-eepr-256kbi-m24256-brmn6tp-soic-8-stm-41455201.pdf?src-supplier=Conrad; ComponentLink18Description: https://datasheet.ciiva.com/41455/001185584-da-01-en-ic-eepr-256kbi-m24256-brmn6tp-soic-8-stm-41455201.pdf?src-supplier=Conrad; ComponentLink19URL: https://datasheet.ciiva.com/1905/cd00001891-1905179.pdf?src-supplier=Digi-Key; ComponentLink19Description: https://datasheet.ciiva.com/1905/cd00001891-1905179.pdf?src-supplier=Digi-Key; ComponentLink20URL: https://datasheet.ciiva.com/1905/cd00001891-1905180.pdf?src-supplier=Digi-Key; ComponentLink20Description: https://datasheet.ciiva.com/1905/cd00001891-1905180.pdf?src-supplier=Digi-Key; ComponentLink21URL: https://datasheet.ciiva.com/1905/cd00001891-1905181.pdf?src-supplier=Digi-Key; ComponentLink21Description: https://datasheet.ciiva.com/1905/cd00001891-1905181.pdf?src-supplier=Digi-Key; Supplier 7: Digi-Key; Supplier Part Number 7: WM1860-ND; Stock 7: 11258; Working Voltage: 250V; Voltage Rating (DC): 250V; Halogen Free: Low Halogen; ComponentLink22URL: https://datasheet.ciiva.com/14155/04402066-14155224.pdf?src-supplier=Distrelec; ComponentLink22Description: https://datasheet.ciiva.com/14155/04402066-14155224.pdf?src-supplier=Distrelec; ComponentLink23URL: https://datasheet.ciiva.com/5158/0436500200-pcb-headers-148844-5158523.pdf?src-supplier=Mouser; ComponentLink23Description: https://datasheet.ciiva.com/5158/0436500200-pcb-headers-148844-5158523.pdf?src-supplier=Mouser; ComponentLink24URL: https://datasheet.ciiva.com/11748/0900766b80d6135b-11748140.pdf?src-supplier=RSComponents; ComponentLink24Description: https://datasheet.ciiva.com/11748/0900766b80d6135b-11748140.pdf?src-supplier=RSComponents; ComponentLink25URL: https://datasheet.ciiva.com/22683/1709823-22683551.pdf?src-supplier=Element14; ComponentLink25Description: https://datasheet.ciiva.com/22683/1709823-22683551.pdf?src-supplier=Element14; ComponentLink26URL: https://datasheet.ciiva.com/30161/48630436500200-pcb-headers-30161343.pdf?src-supplier=Onlinecomponents.com; ComponentLink26Description: https://datasheet.ciiva.com/30161/48630436500200-pcb-headers-30161343.pdf?src-supplier=Onlinecomponents.com; ComponentLink27URL: https://datasheet.ciiva.com/9432/0436500200-pcb-headers-9432849.pdf?src-supplier=Avnet; ComponentLink27Description: https://datasheet.ciiva.com/9432/0436500200-pcb-headers-9432849.pdf?src-supplier=Avnet; ComponentLink28URL: https://datasheet.ciiva.com/16089/1029720436500200-pcb-headers-16089218.pdf?src-supplier=Onlinecomponents.com; ComponentLink28Description: https://datasheet.ciiva.com/16089/1029720436500200-pcb-headers-16089218.pdf?src-supplier=Onlinecomponents.com; ComponentLink29URL: https://datasheet.ciiva.com/7920/1839562-7920756.pdf?src-supplier=Element14; ComponentLink29Description: https://datasheet.ciiva.com/7920/1839562-7920756.pdf?src-supplier=Element14; ComponentLink30URL: https://datasheet.ciiva.com/19462/884053-19462312.pdf?src-supplier=Jameco; ComponentLink30Description: https://datasheet.ciiva.com/19462/884053-19462312.pdf?src-supplier=Jameco; ComponentLink31URL: https://datasheet.ciiva.com/16654/0436500200-pcb-headers-16654958.pdf?src-supplier=Avnet+Europe; ComponentLink31Description: https://datasheet.ciiva.com/16654/0436500200-pcb-headers-16654958.pdf?src-supplier=Avnet+Europe; Supplier 8: Digi-Key; Supplier Part Number 8: 1175-1623-ND; Stock 8: 21730; ComponentLink32URL: https://datasheet.ciiva.com/6904/3020-34-0300-00-6904731.pdf?src-supplier=Digi-Key; ComponentLink32Description: https://datasheet.ciiva.com/6904/3020-34-0300-00-6904731.pdf?src-supplier=Digi-Key; ComponentLink33URL: https://datasheet.ciiva.com/18485/3020-xx-0300-00-18485471.pdf?src-supplier=Digi-Key; ComponentLink33Description: https://datasheet.ciiva.com/18485/3020-xx-0300-00-18485471.pdf?src-supplier=Digi-Key; Supplier 9: Digi-Key; Supplier Part Number 9: 535-10630-1-ND; Stock 9: 68218; Composition: Ceramic; Tolerance: 20ppm; ComponentLink34URL: https://datasheet.ciiva.com/862/abm3-862465.pdf?src-supplier=Digi-Key; ComponentLink34Description: https://datasheet.ciiva.com/862/abm3-862465.pdf?src-supplier=Digi-Key; Supplier 10: Digi-Key; Supplier Part Number 10: 535-9544-1-ND; Stock 10: 100673; ComponentLink35URL: https://datasheet.ciiva.com/855/abs07-855948.pdf?src-supplier=Digi-Key; ComponentLink35Description: https://datasheet.ciiva.com/855/abs07-855948.pdf?src-supplier=Digi-Key
footprint 8-SOIC
pins: 1 TXD, 2 VSS, 3 VDD, 4 RXD, 5 VREF, 6 CANL, 7 CANH, 8 RS

## Molex Micro-fit 3.0 2pos RA single row
designator J?
MOLEX   43650-0200   HEADER, R/A, SINGLE ROW, 2 WAY
footprint Molex Micro-fit 3.0 2pos RA single row
pins: 1, 2

## PTS526SM15SMTR2LFS
designator S?, comment SPST-NO
TACT 5.2 X 5.2, 1.5 MM H, 160GF, Tactile Switch SPST-NO Top Actuated Surface Mount; Manufacturer: ITT C&K; Manufacturer Part Number: PTS526SM15SMTR2LFS; Supplier 1: Digi-Key; Supplier Part Number 1: CKN12220-1-ND; RoHS: No; Stock 1: 5534
footprint PTS526 SM15 SMTR2 LFS
pins: 1 COM, 2 COM, 3 NO, 4 NO

## RC0402JR-074K7L
designator R?, comment 4.7k
Res Thick Film 0402 4.7K Ohm 5% 0.063W(1/16W) ±100ppm/C Molded SMD Paper T/R; Manufacturer: Yageo; Manufacturer Part Number: RC0402JR-074K7L; Max Power Dissipation: 63mW; Voltage Rating: 50V; Resistance: 4.7kR; Temperature Coefficient: 100ppm/°C; Supplier 1: Digi-Key; Supplier Part Number 1: 311-4.7KJRCT-ND; RoHS: Yes; Category: Chip SMD Resistors; Stock 1: 14354492; Case/Package: 0402; Case Code (Imperial): 0402; Case Code (Metric): 1005; Min Operating Temperature: -55°C; Max Operating Temperature: 155°C; Composition: Thick Film; Features: Moisture Resistant; Power Rating: 63mW; Tolerance: 5%; Packaging: Tape and Reel; Termination: SMD/SMT; Package Quantity: 1; Number of Terminations: 2; Military Standard: Not; Length: 0.039inch; Height: 0.016inch; Width: 0.02inch; Depth: 0.5mm; REACH SVHC: No SVHC; Lead Free: Lead Free; ComponentLink1URL: https://datasheet.ciiva.com/2452/pyu-r-int-thick-7-2452611.pdf?src-supplier=Digi-Key; ComponentLink1Description: https://datasheet.ciiva.com/2452/pyu-r-int-thick-7-2452611.pdf?src-supplier=Digi-Key; ComponentLink2URL: https://datasheet.ciiva.com/2452/pyu-r-int-thick-7-2452612.pdf?src-supplier=Digi-Key; ComponentLink2Description: https://datasheet.ciiva.com/2452/pyu-r-int-thick-7-2452612.pdf?src-supplier=Digi-Key; ComponentLink3URL: https://datasheet.ciiva.com/2452/pyu-r-int-thick-7-2452613.pdf?src-supplier=Digi-Key; ComponentLink3Description: https://datasheet.ciiva.com/2452/pyu-r-int-thick-7-2452613.pdf?src-supplier=Digi-Key; ComponentLink4URL: https://datasheet.ciiva.com/46412/1018594-46412841.pdf?src-supplier=Element14; ComponentLink4Description: https://datasheet.ciiva.com/46412/1018594-46412841.pdf?src-supplier=Element14; ComponentLink5URL: https://datasheet.ciiva.com/16800/pyu-rc0402-51-rohs-l-6-r-16800266.pdf?src-supplier=Future+Electronics; ComponentLink5Description: https://datasheet.ciiva.com/16800/pyu-rc0402-51-rohs-l-6-r-16800266.pdf?src-supplier=Future+Electronics; ComponentLink6URL: https://datasheet.ciiva.com/7850/1018594-7850222.pdf?src-supplier=Element14; ComponentLink6Description: https://datasheet.ciiva.com/7850/1018594-7850222.pdf?src-supplier=Element14; ComponentLink7URL: https://datasheet.ciiva.com/7850/1018594-7850223.pdf?src-supplier=Element14; ComponentLink7Description: https://datasheet.ciiva.com/7850/1018594-7850223.pdf?src-supplier=Element14
pins: 1, 2

## RC2012F202CS
designator R?, comment 2k
Res Thick Film 0805 2K Ohm 1% 0.125W(1/8W) ±100ppm/C Molded SMD T/R; Manufacturer: Samsung; Manufacturer Part Number: RC2012F202CS; Resistance: 2kR; Max Power Dissipation: 125mW; Temperature Coefficient: 100ppm/°C; Voltage Rating (DC): 150V; Supplier 1: Avnet; Supplier Part Number 1: RC2012F202CS; RoHS: Yes; Category: Chip SMD Resistors; Case/Package: 0805; Case Code (Metric): 2012; Contact Plating: Tin; Case Code (Imperial): 0805; Min Operating Temperature: -55°C; Max Operating Temperature: 155°C; Tolerance: 1%; Number of Terminations: 2; Composition: Thick Film; Features: Moisture Resistant; Packaging: Tape and Reel; Length: 0.079inch; Height: 0.024inch; Width: 0.049inch; Radiation Hardening: No; Lead Free: Lead Free; ComponentLink1URL: https://datasheet.ciiva.com/26151/chip-resistor-150112-1-26151801.pdf?src-supplier=Digi-Key; ComponentLink1Description: https://datasheet.ciiva.com/26151/chip-resistor-150112-1-26151801.pdf?src-supplier=Digi-Key; ComponentLink2URL: https://datasheet.ciiva.com/26151/chip-resistor-150112-1-26151821.pdf?src-supplier=Digi-Key; ComponentLink2Description: https://datasheet.ciiva.com/26151/chip-resistor-150112-1-26151821.pdf?src-supplier=Digi-Key
footprint 0805
pins: 1, 2

## RC3216F103CS
designator R?, comment 10k
Res Thick Film 1206 10K Ohm 1% 0.25W(1/4W) ±100ppm/C Molded SMD T/R; Manufacturer: Samsung; Manufacturer Part Number: RC3216F103CS; Resistance: 10kR; Temperature Coefficient: 100ppm/°C; Max Power Dissipation: 250mW; Voltage Rating (DC): 200V; Supplier 1: Digi-Key; Supplier Part Number 1: 1276-5742-2-ND; RoHS: Yes; Category: Chip SMD Resistors; Stock 1: 130000; Case/Package: 1206; Contact Plating: Tin; Case Code (Imperial): 1206; Case Code (Metric): 3216; Min Operating Temperature: -55°C; Max Operating Temperature: 155°C; Composition: Thick Film; Tolerance: 1%; Features: Moisture Resistant; Number of Terminations: 2; Military Standard: Not; Packaging: Tape and Reel; Length: 0.126inch; Height: 0.026inch; Width: 0.063inch; Depth: 1.6mm; Radiation Hardening: No; Lead Free: Lead Free; ComponentLink1URL: https://datasheet.ciiva.com/26138/chip-resistor-150112-1-26138952.pdf?src-supplier=Digi-Key; ComponentLink1Description: https://datasheet.ciiva.com/26138/chip-resistor-150112-1-26138952.pdf?src-supplier=Digi-Key; ComponentLink2URL: https://datasheet.ciiva.com/26138/chip-resistor-150112-1-26138971.pdf?src-supplier=Digi-Key; ComponentLink2Description: https://datasheet.ciiva.com/26138/chip-resistor-150112-1-26138971.pdf?src-supplier=Digi-Key; ComponentLink3URL: https://datasheet.ciiva.com/26138/chip-resistor-150112-1-26138940.pdf?src-supplier=Digi-Key; ComponentLink3Description: https://datasheet.ciiva.com/26138/chip-resistor-150112-1-26138940.pdf?src-supplier=Digi-Key
footprint 1206
pins: 1, 2

## RMCF0805ZT0R00
designator R?, comment 0
STACKPOLE ELECTRONICS - RMCF0805ZT0R00. - RES THKFLM 0805 0 OHM JUMPER 1/8W 200PPM/ C SMD ROHS COMPLIANT: YES; Resistance: 0mR; Power Rating: 125mW; Supplier 1: Digi-Key; Supplier Part Number 1: RMCF0805ZT0R00CT-ND; Manufacturer: Stackpole Electronics; Manufacturer Part Number: RMCF0805ZT0R00; RoHS: Yes; Category: Chip SMD Resistors; Stock 1: 14305; Mount: Surface Mount; Case/Package: 0805; Case Code (Metric): 2012; Case Code (Imperial): 0805; Contact Plating: Tin,Matte; Min Operating Temperature: -55°C; Max Operating Temperature: 155°C; Packaging: Tape and Reel; Features: Automotive AEC-Q200; Composition: Thick Film; Number of Terminations: 2; Military Standard: Not; Max Power Dissipation: 125mW; Length: 2mm; Height: 0.026inch; Width: 0.049inch; Depth: 1.25mm; Radiation Hardening: No; Lead Free: Lead Free; ComponentLink1URL: https://datasheet.ciiva.com/15193/getdatasheetpartid-360417-15193658.pdf?src-supplier=Verical; ComponentLink1Description: https://datasheet.ciiva.com/15193/getdatasheetpartid-360417-15193658.pdf?src-supplier=Verical
footprint 0805
pins: 1, 2

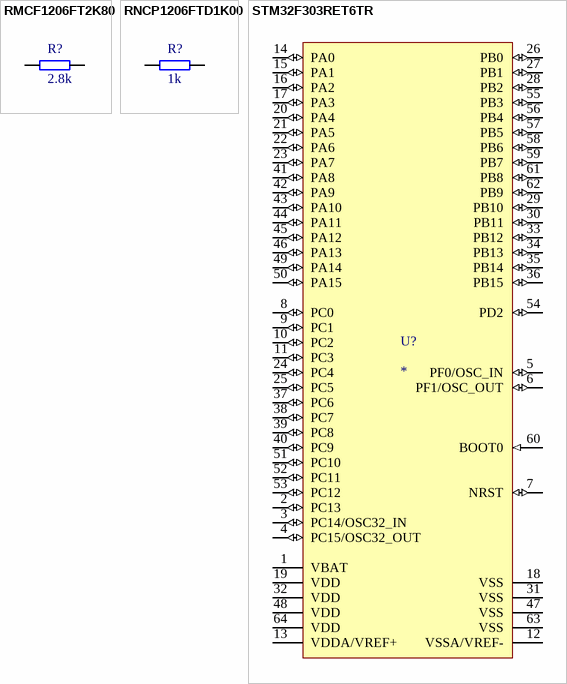
[diagram p1: symbols RMCF1206FT2K80 to STM32F303RET6TR]

## RMCF1206FT2K80
designator R?, comment 2.8k
RES 2.8K OHM 1/4W 1% 1206; Manufacturer: Stackpole Electronics; Manufacturer Part Number: RMCF1206FT2K80; Max Power Dissipation: 250mW; Temperature Coefficient: 100ppm/°C; Resistance: 2.8kR; Supplier 1: Digi-Key; Supplier Part Number 1: 738-RMCF1206FT2K80CT-ND; RoHS: Yes; Category: Chip SMD Resistors; Stock 1: 3531; Mount: Surface Mount; Case/Package: 1206; Case Code (Metric): 3216; Contact Plating: Tin,Matte; Case Code (Imperial): 1206; Min Operating Temperature: -55°C; Max Operating Temperature: 155°C; Package Quantity: 5000; Packaging: Tape and Reel; Tolerance: 1%; Composition: Thick Film; Number of Terminations: 2; Features: Automotive AEC-Q200; Length: 0.126inch; Height: 0.028inch; Width: 0.063inch; Radiation Hardening: No; ComponentLink1URL: https://www.seielect.com/Catalog/SEI-RMCF_RMCP.pdf?src-supplier=Digi-Key; ComponentLink1Description: https://www.seielect.com/Catalog/SEI-RMCF_RMCP.pdf?src-supplier=Digi-Key; ComponentLink2URL: http://www.seielect.com/Catalog/SEI-RMCF_RMCP.pdf?src-supplier=Digi-Key; ComponentLink2Description: http://www.seielect.com/Catalog/SEI-RMCF_RMCP.pdf?src-supplier=Digi-Key; ComponentLink3URL: https://www.seielect.com/catalog/SEI-RMCF_RMCP.pdf?src-supplier=Avnet; ComponentLink3Description: https://www.seielect.com/catalog/SEI-RMCF_RMCP.pdf?src-supplier=Avnet
footprint 1206
pins: 1, 2

## RNCP1206FTD1K00
designator R?, comment 1k
RES 1K OHM 1% 1/2W 1206; Manufacturer: Stackpole Electronics; Manufacturer Part Number: RNCP1206FTD1K00; Resistance: 1kR; Max Power Dissipation: 500mW; Temperature Coefficient: 100ppm/°C; Supplier 1: Digi-Key; Supplier Part Number 1: RNCP1206FTD1K00CT-ND; RoHS: Yes; Category: Chip SMD Resistors; Stock 1: 224420; Mount: Surface Mount; Case/Package: 1206; Case Code (Imperial): 1206; Case Code (Metric): 3216; Contact Plating: Tin,Matte; Min Operating Temperature: -55°C; Max Operating Temperature: 155°C; Composition: Thin Film; Tolerance: 1%; Packaging: Tape and Reel; Number of Terminations: 2; Features: Moisture Resistant,Anti-Sulfur; Length: 0.122inch; Height: 0.024inch; Width: 0.059inch; Radiation Hardening: No; Lead Free: Lead Free; ComponentLink1URL: https://www.seielect.com/catalog/SEI-Packaging.pdf?src-supplier=Digi-Key; ComponentLink1Description: https://www.seielect.com/catalog/SEI-Packaging.pdf?src-supplier=Digi-Key; ComponentLink2URL: http://www.seielect.com/Catalog/SEI-rncp.pdf?src-supplier=Avnet; ComponentLink2Description: http://www.seielect.com/Catalog/SEI-rncp.pdf?src-supplier=Avnet
footprint 1206
pins: 1, 2